# EAGLE library part TPS561201 (library bzd)
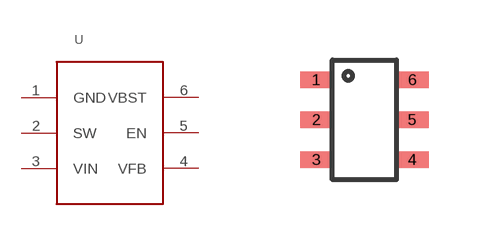
[diagram p1: symbol with the pads of SOT23_6_PIN; footprint SOT23_6_PIN]

Designator prefix -

## TPS561201  [SOT23_6_PIN]
1  GND
2  SW
3  VIN
4  VFB
5  EN
6  VBST

## Footprint SOT23_6_PIN (pad centres in mm)
smd 0.813 x 0.406: 1 -0.4,-0.5; 2 -0.4,-1.5; 3 -0.4,-2.5; 4 2,-2.5; 5 2,-1.5; 6 2,-0.5